# EAGLE library part SN65HVD23 (library isystems)
3.3-V CAN TRANSCEIVERS
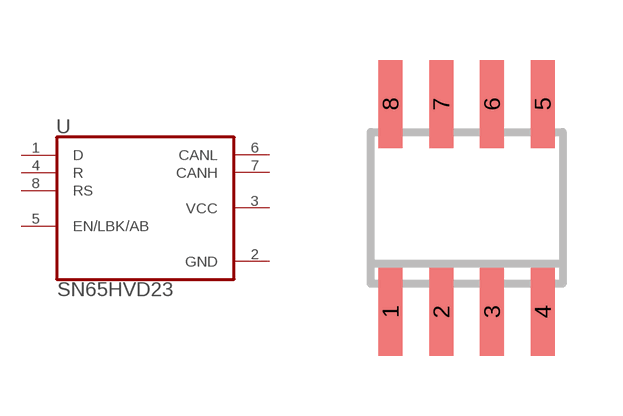
[diagram p15: symbol with the pads of SOIC8; footprint SOIC8]

Designator prefix U

## SN65HVD234  [SOIC8]
1  D  in
2  GND  pas
3  VCC  pwr
4  R  out
5  EN/LBK/AB  in
6  CANL  out
7  CANH  out
8  RS  in

## SN65HVD233  [SOIC8]
Pads as for SOIC8

## SN65HVD235  [SOIC8]
Pads as for SOIC8

## Footprint SOIC8 (pad centres in mm)
Small Outline IC
smd 0.6 x 2.2: 1 -1.905,-2.6; 2 -0.635,-2.6; 3 0.635,-2.6; 4 1.905,-2.6; 5 1.905,2.6; 6 0.635,2.6; 7 -0.635,2.6; 8 -1.905,2.6